# EAGLE library part MAX6818 (library NASA_LIB)
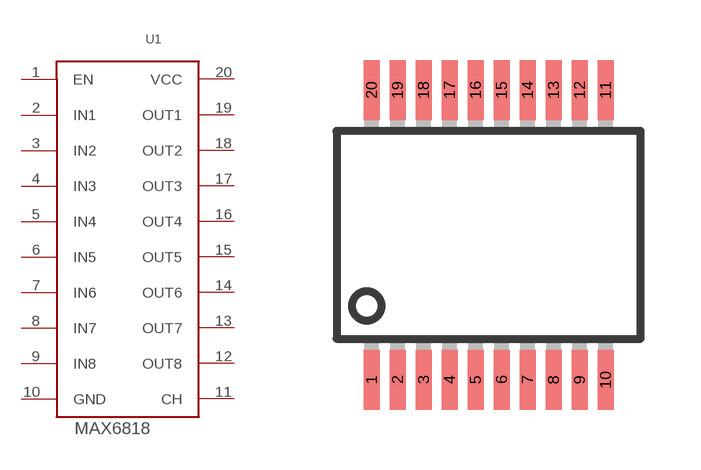
[diagram p6: symbol with the pads of SSOP-20; footprint SSOP-20]

Designator prefix U1

## MAX6818  [SSOP-20]
1  EN
2  IN1
3  IN2
4  IN3
5  IN4
6  IN5
7  IN6
8  IN7
9  IN8
10  GND
11  CH
12  OUT8
13  OUT7
14  OUT6
15  OUT5
16  OUT4
17  OUT3
18  OUT2
19  OUT1
20  VCC

## Footprint SSOP-20 (pad centres in mm)
smd 0.4 x 1.5: 1 -2.925,-3.625; 2 -2.275,-3.625; 3 -1.625,-3.625; 4 -0.975,-3.625; 5 -0.325,-3.625; 6 0.325,-3.625; 7 0.975,-3.625; 8 1.625,-3.625; 9 2.275,-3.625; 10 2.925,-3.625; 11 2.925,3.625; 12 2.275,3.625; 13 1.625,3.625; 14 0.975,3.625; 15 0.325,3.625; 16 -0.325,3.625; 17 -0.975,3.625; 18 -1.625,3.625; 19 -2.275,3.625; 20 -2.925,3.625